# Altium footprint library Seeed-OPL-Switch.PCBLIB: 31 footprints (part 1 of 2)
Each footprint in its own frame and in the unit in brackets; x right, y up, seen from the top. Pads: shape width x height; smd on the part's side, far side on the other; paste and mask are expansions set on the pad; w line width, h text height; cw(c..) or ccw(c..) is an arc to the next point about the centre after c.
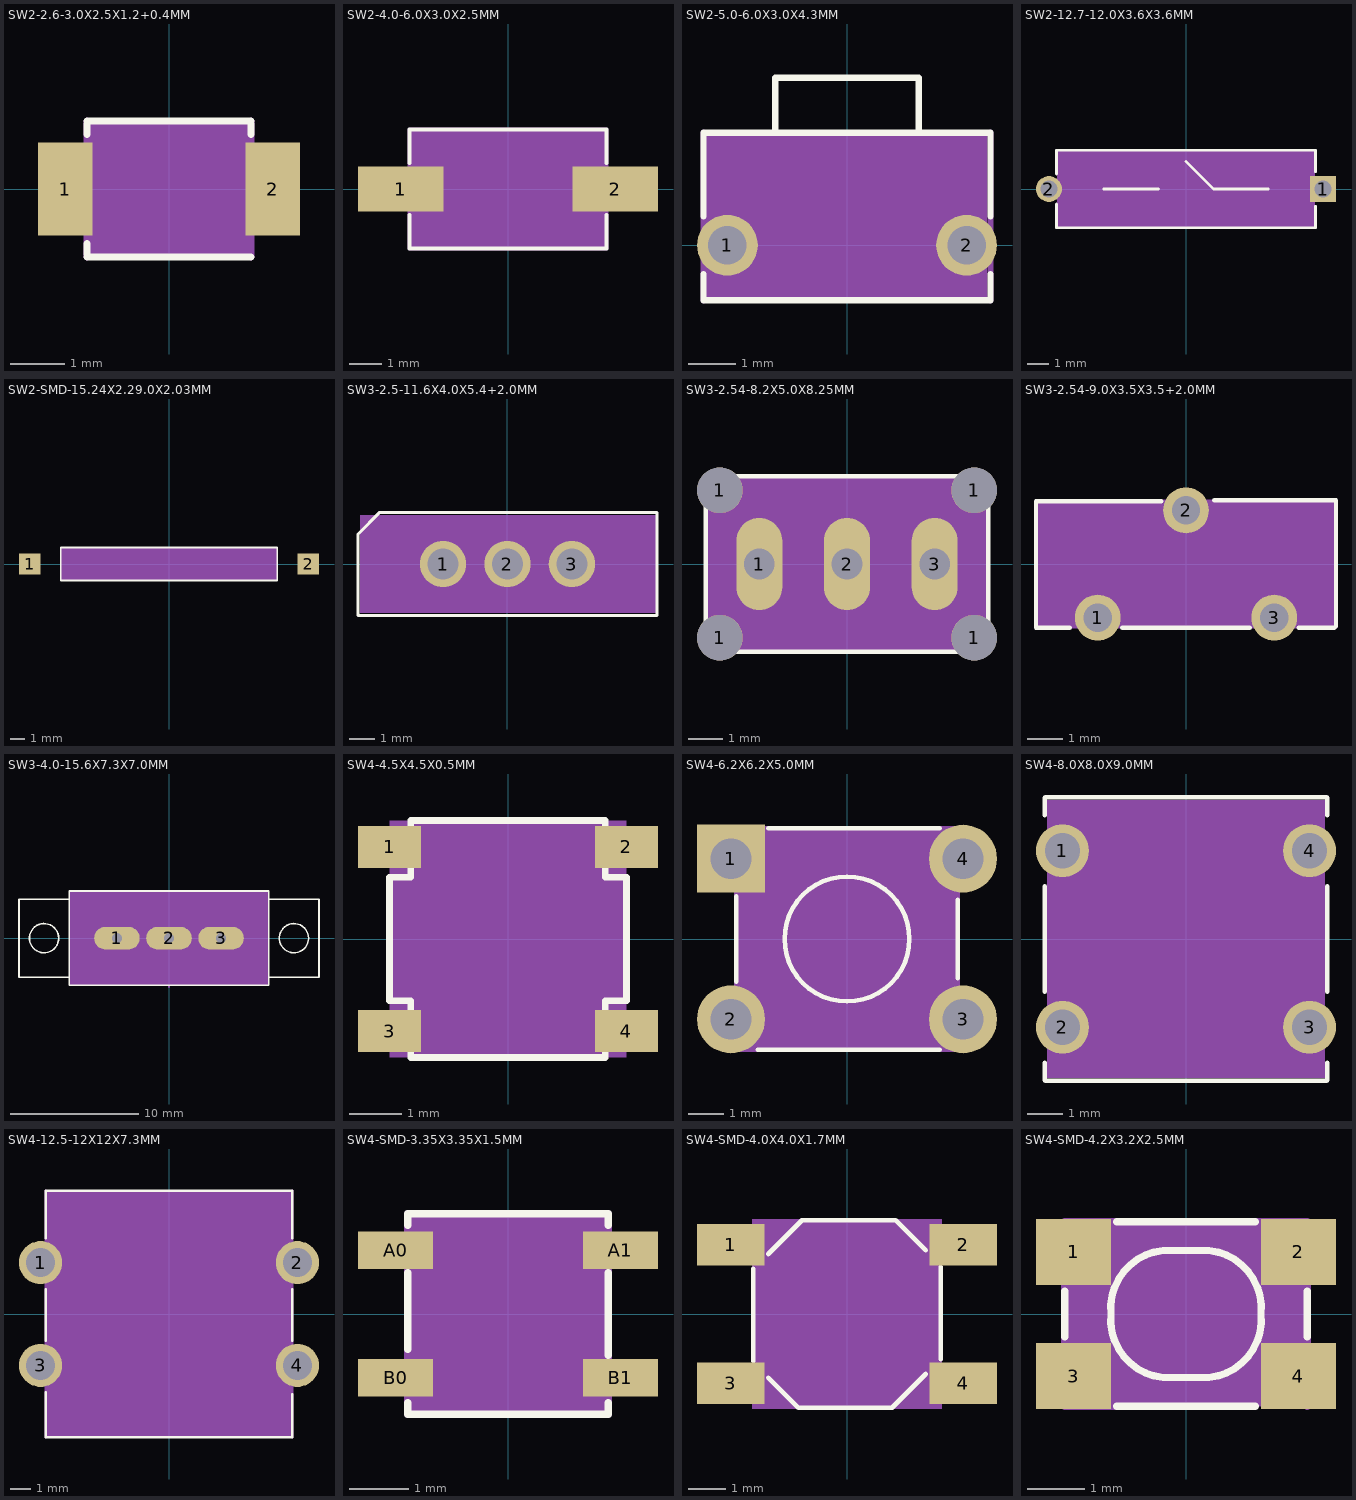
[diagram p0: the footprints below, top view; thin cyan lines are the x and y axes]

## SW2-2.6-3.0X2.5X1.2+0.4MM [mm]
pads (2):
  rect 1x1.7 smd: 1(-1.9,0) 2(1.9,0)
Top Overlay:
  lines w0.127: -1.5,-1.25 1.5,-1.25 ; -1.5,-1.2 -1.5,-1 ; -1.5,1 -1.5,1.2 ; -1.5,1.25 1.5,1.25 ; 1.5,1 1.5,1.2
Mechanical 16:
  lines w0.127: -1.5,-1.25 -1.5,1.25 ; 1.5,-1.25 1.5,1.25
Mechanical 27:
  rectangle: -1.5,-1.2 1.5,1.2

## SW2-4.0-6.0X3.0X2.5MM [mm]
pads (2):
  rect 2.65x1.4 smd: 1(-3.325,0) 2(3.325,0)
Top Overlay:
  lines w0.127: -3.05,-1.85 3.05,-1.85 ; -3.05,-1.8 -3.05,-0.8 ; -3.05,0.8 -3.05,1.8 ; -3.05,1.85 3.05,1.85 ; 3.05,-1.8 3.05,-0.8 ; 3.05,0.8 3.05,1.8
Mechanical 16:
  lines w0.127: -3.05,-1.85 -3.05,1.85 ; 3.05,-1.85 3.05,1.85
Mechanical 27:
  rectangle: -3.048,-1.905 3.048,1.905

## SW2-5.0-6.0X3.0X4.3MM [mil]
pads (2):
  round 50 hole 31.5: 1(-98.43,0) 2(98.43,0)
Top Overlay:
  lines w5: -118.11,-23.62 -118.11,-45.28 118.11,-45.28 118.11,-23.62 ; -118.11,23.62 -118.11,90.55 ; -118.11,92.52 -59.06,92.52 ; 118.11,23.62 118.11,90.55 ; 118.11,92.52 59.06,92.52 ; -59.06,92.52 59.06,92.52 ; -59.06,92.52 -59.06,137.8 59.06,137.8 59.06,92.52
Mechanical 16:
  lines w5: -118.11,-45.28 -118.11,92.52 ; 118.11,-45.28 118.11,92.52
Mechanical 27:
  rectangle: -120,-45 115,90

## SW2-12.7-12.0X3.6X3.6MM [mil]
pads (2):
  rect 47.25x47.25 hole 31.5: 1(250,0)
  round 47.25 hole 31.5: 2(-250,0)
Top Overlay:
  lines w5: -236.22,-27.56 -236.22,-70.87 236.22,-70.87 236.22,-31.5 ; -236.22,27.56 -236.22,70.87 236.22,70.87 236.22,31.5 ; -150,0 -50,0 ; 0,50 50,0 150,0
Mechanical 27:
  region: -235,70 -235,-70 235,-70 235,70

## SW2-SMD-15.24X2.29.0X2.03MM [mil]
pads (2):
  rect 59.06x59.06 smd: 1(-385.83,0) 2(385.83,0)
Top Overlay:
  lines w5: -300,-45.28 300,-45.28 300,45.28 -300,45.28 -300,-45.28
Mechanical 27:
  rectangle: -300,-45 300,45

## SW3-2.5-11.6X4.0X5.4+2.0MM [mil]
pads (3):
  round 70.86 hole 47.24: 1(-98.43,0) 2(0,0) 3(98.43,0)
Top Overlay:
  lines w5: -228.35,-78.74 228.35,-78.74 228.35,78.74 -195.05,78.74 -228.35,45.44 -228.35,-78.74
Mechanical 27:
  rectangle: -225,-75 230,75

## SW3-2.54-8.2X5.0X8.25MM [mil]
pads (7):
  round 52 hole 52: 1(-145,-84) 1(-145,84) 1(145,-84) 1(145,84)
  oval 52.5x105 hole 35: 1(-100,0) 2(0,0) 3(100,0)
Top Overlay:
  lines w5: -161,-100 161,-100 161,100 -161,100 -161,-100
Mechanical 11:
  lines w35: -100,-35 -100,35 ; 0,-35 0,35 ; 100,-35 100,35
Mechanical 27:
  rectangle: -161,-100 161,100

## SW3-2.54-9.0X3.5X3.5+2.0MM [mil]
pads (3):
  round 51.18 hole 31.5: 1(-98.43,-59.84) 2(0,59.84) 3(98.43,-59.84)
Top Overlay:
  lines w5: -167.32,-70.87 -129.92,-70.87 ; -167.32,-69.69 -167.32,69.69 ; -167.32,70.08 -27.56,70.08 ; -70.87,-70.87 70.87,-70.87 ; 31.5,70.87 167.32,70.87 ; 125.98,-70.87 165.35,-70.87 ; 167.32,-69.69 167.32,69.69
Mechanical 16:
  lines w5: -167.32,-69.69 167.32,-69.69 ; -167.32,69.69 167.32,69.69
Mechanical 27:
  rectangle: -165,-70 165,70

## SW3-4.0-15.6X7.3X7.0MM [mil]
pads (3):
  oval 140x70 hole 31.5: 1(-160,0) 2(0,0) 3(160,0)
Top Overlay:
  circle w5: c-384,0 r45
  circle w5: c384,0 r45
  lines w5: -307,-120 -307,-145 307,-145 307,-120 ; -307,-120 -307,120 ; -307,-120 -461,-120 -461,120 -307,120 ; -307,120 -307,145 307,145 307,120 ; 307,-120 307,120 ; 307,-120 461,-120 461,120 307,120
Mechanical 11:
  lines w5: -200,-75 -175,-50 ; -150,-75 -175,-50 ; -25,-75 0,-50 ; 0,-150 0,-100 ; 25,-75 0,-50 ; 150,-75 175,-50 ; 200,-75 175,-50 ; -175,-50 -175,-100 0,-100 ; 0,-100 0,-50 ; 0,-100 175,-100 175,-50
  lines w32: -205,0 -115,0 ; -45,0 45,0 ; 115,0 205,0
  text "slot 3 drills with copper" at -300,-200 h49.6
Mechanical 27:
  rectangle: -307,-145 307,145

## SW4-4.5X4.5X0.5MM [mil]
pads (4):
  rect 47.24x31.5 smd: 1(-88.58,68.9) 2(88.58,68.9) 3(-88.58,-68.9) 4(88.58,-68.9)
Top Overlay:
  lines w5: -88.58,-46.26 -88.58,46.26 -72.83,46.26 -72.83,88.58 72.83,88.58 72.83,46.26 88.58,46.26 88.58,-46.26 72.83,-46.26 72.83,-88.58 -72.83,-88.58 -72.83,-46.26 -88.58,-46.26
Mechanical 27:
  rectangle: -88.58,-88.58 88.58,88.58

## SW4-6.2X6.2X5.0MM [mil]
pads (4):
  rect 75x75 hole 45: 1(-127.95,88.58)
  round 75 hole 45: 2(-127.95,-88.58) 3(127.95,-88.58) 4(127.95,88.58)
Top Overlay:
  circle w5: c0,0 r68.9
  lines w5: -122.05,-47.24 -122.05,47.24 ; -98.43,-122.05 102.36,-122.05 ; -86.61,122.05 102.36,122.05 ; 122.05,-43.31 122.05,43.31
Mechanical 16:
  lines w5: -122.05,-122.05 122.05,-122.05 122.05,122.05 -122.05,122.05 -122.05,-122.05
Mechanical 27:
  rectangle: -122.05,-122.05 122.05,122.05

## SW4-8.0X8.0X9.0MM [mm]
pads (4):
  round 1.5 hole 1: 1(-3.5,2.5) 2(-3.5,-2.5) 3(3.5,-2.5) 4(3.5,2.5)
Top Overlay:
  lines w0.127: -4,-4 -4,-3.5 ; -4,-1.5 -4,1.5 ; -4,3.5 -4,4 ; -3.994,-4.013 3.994,-4.013 ; -3.994,4.013 3.994,4.013 ; 4,-4 4,-3.5 ; 4,-1.5 4,1.5 ; 4,3.5 4,4
Mechanical 27:
  rectangle: -3.937,-3.937 3.937,3.937

## SW4-12.5-12X12X7.3MM [mil]
pads (4):
  round 82.68 hole 55.12: 1(-246.06,98.43) 2(246.06,98.43) 3(-246.06,-98.43) 4(246.06,-98.43)
Top Overlay:
  lines w5: -236.22,-149.61 -236.22,-236.22 236.22,-236.22 236.22,-153.54 ; -236.22,-51.18 -236.22,47.24 ; -236.22,145.67 -236.22,236.22 236.22,236.22 236.22,145.67 ; 236.22,-51.18 236.22,47.24
Mechanical 16:
  lines w5: -236.22,-236.22 -236.22,236.22 ; 236.22,-236.22 236.22,236.22
Mechanical 27:
  rectangle: -235,-235 235,235

## SW4-SMD-3.35X3.35X1.5MM [mil]
pads (4):
  rect 50x25 smd: A0(-75,42.5) A1(75,42.5) B0(-75,-42.5) B1(75,-42.5)
Top Overlay:
  lines w5: -67,-67 67,-67 ; -67,67 67,67 ; -66.93,-66.93 -66.93,-59.06 ; -66.93,-23.62 -66.93,27.56 ; -66.93,59.06 -66.93,66.93 ; 66.93,-66.93 66.93,-59.06 ; 66.93,-27.56 66.93,27.56 ; 66.93,59.06 66.93,66.93
Mechanical 16:
  lines w5: -67,-67 -67,67 ; 67,-67 67,67
Mechanical 27:
  rectangle: -67,-67 67,67

## SW4-SMD-4.0X4.0X1.7MM [mil]
pads (4):
  rect 70.87x43.31 smd: 1(-122.05,72.83) 2(122.05,72.83) 3(-122.05,-72.83) 4(122.05,-72.83)
Top Overlay:
  lines w5: -98.43,-49.27 -98.43,47.5 ; -82.68,-66.93 -51.18,-98.43 43.31,-98.43 47.24,-98.43 ; -82.68,62.99 -47.24,98.43 ; -47.5,98.43 -47.24,98.43 ; 47.5,-98.43 47.24,-98.43 ; 82.68,-62.99 47.24,-98.43 ; 82.68,66.93 51.18,98.43 -47.24,98.43 ; 98.43,-47.5 98.43,49.27
Mechanical 16:
  lines w5: -98.43,-49.27 -49.27,-98.43 ; -98.43,47.5 -47.5,98.43 ; 47.5,-98.43 98.43,-47.5 ; 49.27,98.43 98.43,49.27
Mechanical 27:
  rectangle: -100,-100 100,100

## SW4-SMD-4.2X3.2X2.5MM [mil]
pads (4):
  rect 51.18x45.28 smd: 1(-76.77,42.32) 2(76.77,42.32) 3(-76.77,-42.32) 4(76.77,-42.32)
Top Overlay:
  lines w5: -82.68,-15.75 -82.68,15.75 ; -47.24,-62.99 47.24,-62.99 ; -47.24,62.99 47.24,62.99 ; 82.68,-15.75 82.68,15.75 ; -51.18,0 cw(c-11.81,3.94) -15.75,43.31 15.75,43.31 cw(c11.81,3.94) 51.18,0 cw(c11.81,-3.94) 15.75,-43.31 -15.75,-43.31 cw(c-11.81,-3.94) -51.18,0
Mechanical 16:
  lines w5: -47.24,-62.99 -82.68,-62.99 -82.68,62.99 -47.24,62.99 ; 47.24,62.99 82.68,62.99 82.68,-62.99
Mechanical 27:
  rectangle: -82.68,-62.99 82.68,62.99